# EAGLE library part 691371700012B (library Wurth_Connectors_WR-TBL Pluggable Connector)
WR-TBL Serie 371B - 5.00 mm Vertical Male PCB Header KIND PROPERTIES Pitch 5 mm MATERIAL PROPERTIES Insulator Material PA66 Insulator Flammability Rating UL94 V-0 Contact Material Brass Contact Plating Tin GENERAL INFORMATION Operating Temperature -40 up to +105 °C Compliance RoHS ELECTRICAL PROPERTIES IR cULus 16 A Working Voltage [cULus] 300 V (AC) Withstanding Voltage [cULus] 2000 V (AC) Contact Resistance [cULus] 20 mΩ CERTIFICATION cULus Approval E315414 <https://www.we-online.com/catalog/media/o60725v209%20Family_Con_TBL_Pluggable_5.00_PCB_V_6913717000xxB_pf2.jpg> Details see: https://www.we-online.com/catalog/en/TBL_5_00_371B_VERTICAL_MALE_PCB_HEADER_69137170000XB/ Updated by Ella Wu 2022-07-25 2022(C) Wurth Elektronik
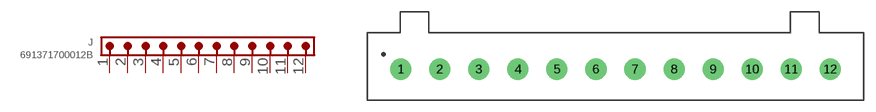
[diagram p205: symbol with the pads of 691371700012B; footprint 691371700012B]

Designator prefix J

## 691371700012B (DATASHEET-URL: https://www.we-online.com/redexpert/spec/691371700012B?ae; IR-UL: 16A; MOUNT: THT; PART-NUMBER: 691371700012B; PINS: 12; PITCH: 5mm; TYPE: Vertical; VALUE: 691371700012B; WORKING-VOLTAGE-UL: 300V (AC))  [691371700012B]
1  1  pas
2  2  pas
3  3  pas
4  4  pas
5  5  pas
6  6  pas
7  7  pas
8  8  pas
9  9  pas
10  10  pas
11  11  pas
12  12  pas

## Footprint 691371700012B (pad centres in mm)
WR-TBL Serie 371B - 5.00 mm Vertical Male PCB Header Max Height = 12mm , Pitch 5mm , 12pins
drill 1.8: 1 -27.5,0; 2 -22.5,0; 3 -17.5,0; 4 -12.5,0; 5 -7.5,0; 6 -2.5,0; 7 2.5,0; 8 7.5,0; 9 12.5,0; 10 17.5,0; 11 22.5,0; 12 27.5,0